# Altium integrated library AP2114HA-3P3TRG1.IntLib: 1 symbol
Pins are listed as number, name and electrical type; pins without a type are passive.

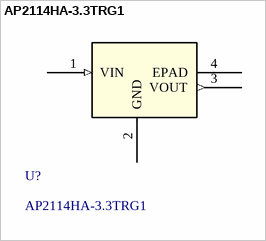
[diagram p0: symbol AP2114HA-3.3TRG1]

## AP2114HA-3.3TRG1
designator U?
No Description Available; Mfr_Name: Diodes Inc; Copyright: Copyright (C) 2023 Ultra Librarian. All rights reserved.; Manufacturer_Part_Number: AP2114HA-3.3TRG1; Digi-Key_Part_Number_1: AP2114HA-3.3TRG1DICT-ND; Digi-Key_Part_Number_2: AP2114HA-3.3TRG1DIDKR-ND; Digi-Key_Part_Number_3: AP2114HA-3.3TRG1DITR-ND; RefDes: RefDes; Type: DEV
footprint SOT-223_DIO
pins: 1 VIN (in), 2 GND (power), 3 VOUT (out), 4 EPAD